# Altium schematic symbol library NXP_microcontrollers.SchLib: 1 symbol
Pins are listed as number, name and electrical type; pins without a type are passive.

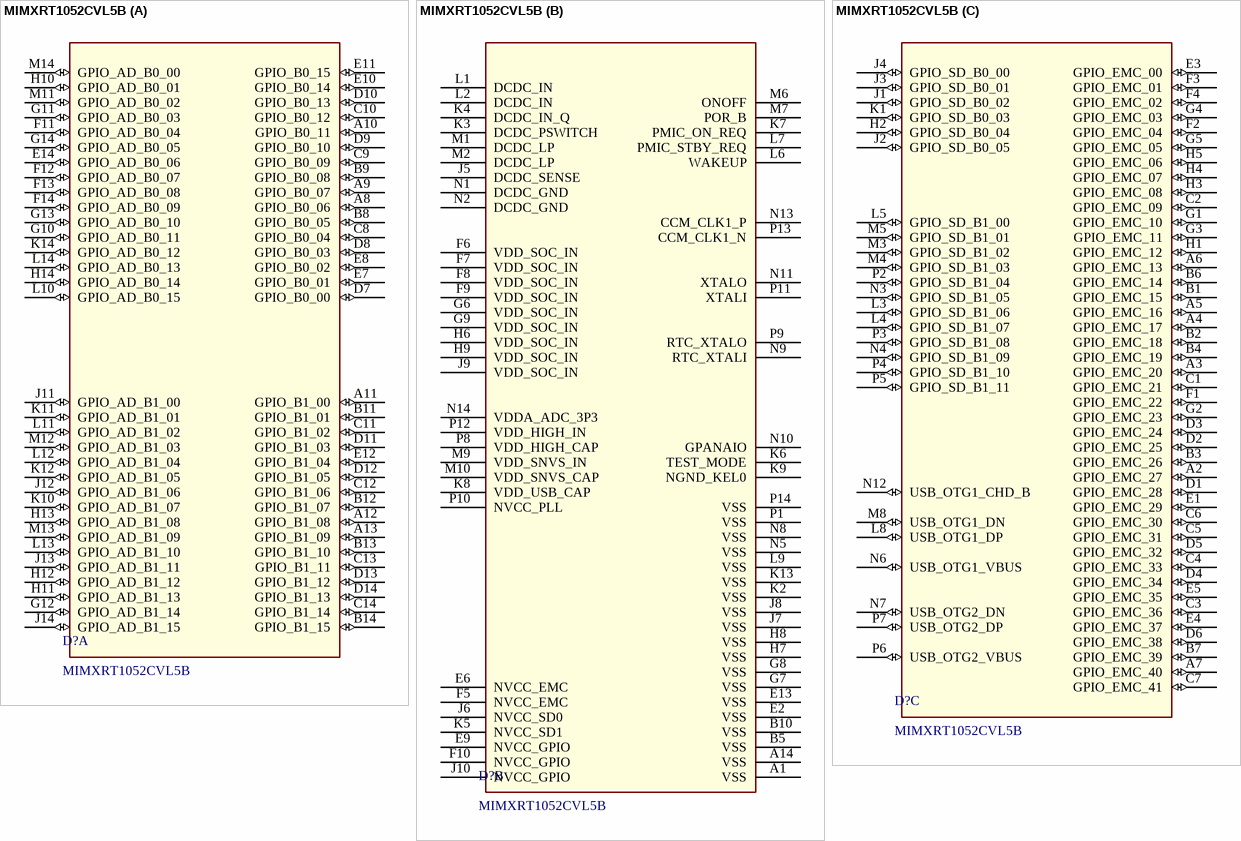
[diagram p0: symbol MIMXRT1052CVL5B]

## MIMXRT1052CVL5B
designator D?
MPU I.MX Family ARM Cortex M7 RISC 32-Bit 528MHz 196-Pin MAPBGA; Manufacturer: NXP Semiconductors; Supplier 1: Digi-Key; Manufacturer Part Number: MIMXRT1052CVL5B; Stock 1: 2673; Pricing 1: 1=13.87, 10=12.669 (USD); ComponentLink1URL: http://www.farnell.com/datasheets/2603846.pdf?src-supplier=Farnell; ComponentLink1Description: http://www.farnell.com/datasheets/2603846.pdf?src-supplier=Farnell; ComponentLink2URL: http://www.farnell.com/datasheets/2603846.pdf?src-supplier=Element14; ComponentLink2Description: http://www.farnell.com/datasheets/2603846.pdf?src-supplier=Element14; ComponentLink3URL: http://www.farnell.com/datasheets/2603846.pdf?src-supplier=Newark; ComponentLink3Description: http://www.farnell.com/datasheets/2603846.pdf?src-supplier=Newark; Supplier Part Number 1: 568-13863-ND
footprint BGA196x14_imxrt1050
part A pins: A8 GPIO_B0_06 (io), A9 GPIO_B0_07 (io), A10 GPIO_B0_11 (io), A11 GPIO_B1_00 (io), A12 GPIO_B1_08 (io), A13 GPIO_B1_09 (io), B8 GPIO_B0_05 (io), B9 GPIO_B0_08 (io), B11 GPIO_B1_01 (io), B12 GPIO_B1_07 (io), B13 GPIO_B1_10 (io), B14 GPIO_B1_15 (io), C8 GPIO_B0_04 (io), C9 GPIO_B0_09 (io), C10 GPIO_B0_12 (io), C11 GPIO_B1_02 (io), C12 GPIO_B1_06 (io), C13 GPIO_B1_11 (io), C14 GPIO_B1_14 (io), D7 GPIO_B0_00 (io), D8 GPIO_B0_03 (io), D9 GPIO_B0_10 (io), D10 GPIO_B0_13 (io), D11 GPIO_B1_03 (io), D12 GPIO_B1_05 (io), D13 GPIO_B1_12 (io), D14 GPIO_B1_13 (io), E7 GPIO_B0_01 (io), E8 GPIO_B0_02 (io), E10 GPIO_B0_14 (io), E11 GPIO_B0_15 (io), E12 GPIO_B1_04 (io), E14 GPIO_AD_B0_06 (io), F11 GPIO_AD_B0_04 (io), F12 GPIO_AD_B0_07 (io), F13 GPIO_AD_B0_08 (io), F14 GPIO_AD_B0_09 (io), G10 GPIO_AD_B0_11 (io), G11 GPIO_AD_B0_03 (io), G12 GPIO_AD_B1_14 (io), G13 GPIO_AD_B0_10 (io), G14 GPIO_AD_B0_05 (io), H10 GPIO_AD_B0_01 (io), H11 GPIO_AD_B1_13 (io), H12 GPIO_AD_B1_12 (io), H13 GPIO_AD_B1_08 (io), H14 GPIO_AD_B0_14 (io), J11 GPIO_AD_B1_00 (io), J12 GPIO_AD_B1_06 (io), J13 GPIO_AD_B1_11 (io), J14 GPIO_AD_B1_15 (io), K10 GPIO_AD_B1_07 (io), K11 GPIO_AD_B1_01 (io), K12 GPIO_AD_B1_05 (io), K14 GPIO_AD_B0_12 (io), L10 GPIO_AD_B0_15 (io), L11 GPIO_AD_B1_02 (io), L12 GPIO_AD_B1_04 (io), L13 GPIO_AD_B1_10 (io), L14 GPIO_AD_B0_13 (io), M11 GPIO_AD_B0_02 (io), M12 GPIO_AD_B1_03 (io), M13 GPIO_AD_B1_09 (io), M14 GPIO_AD_B0_00 (io)
part B pins: A1 VSS (power), A14 VSS (power), B5 VSS (power), B10 VSS (power), E2 VSS (power), E6 NVCC_EMC (power), E9 NVCC_GPIO (power), E13 VSS (power), F5 NVCC_EMC (power), F6 VDD_SOC_IN (power), F7 VDD_SOC_IN (power), F8 VDD_SOC_IN (power), F9 VDD_SOC_IN (power), F10 NVCC_GPIO (power), G6 VDD_SOC_IN (power), G7 VSS (power), G8 VSS (power), G9 VDD_SOC_IN (power), H6 VDD_SOC_IN (power), H7 VSS (power), H8 VSS (power), H9 VDD_SOC_IN (power), J5 DCDC_SENSE (power), J6 NVCC_SD0 (power), J7 VSS (power), J8 VSS (power), J9 VDD_SOC_IN (power), J10 NVCC_GPIO (power), K2 VSS (power), K3 DCDC_PSWITCH (power), K4 DCDC_IN_Q (power), K5 NVCC_SD1 (power), K6 TEST_MODE (power), K7 PMIC_ON_REQ (power), K8 VDD_USB_CAP (power), K9 NGND_KEL0 (power), K13 VSS (power), L1 DCDC_IN (power), L2 DCDC_IN (power), L6 WAKEUP (power), L7 PMIC_STBY_REQ (power), L9 VSS (power), M1 DCDC_LP (power), M2 DCDC_LP (power), M6 ONOFF (power), M7 POR_B (power), M9 VDD_SNVS_IN (power), M10 VDD_SNVS_CAP (power), N1 DCDC_GND (power), N2 DCDC_GND (power), N5 VSS (power), N8 VSS (power), N9 RTC_XTALI (power), N10 GPANAIO (power), N11 XTALO (power), N13 CCM_CLK1_P (power), N14 VDDA_ADC_3P3 (power), P1 VSS (power), P8 VDD_HIGH_CAP (power), P9 RTC_XTALO (power), P10 NVCC_PLL (power), P11 XTALI (power), P12 VDD_HIGH_IN (power), P13 CCM_CLK1_N (power), P14 VSS (power)
part C pins: A2 GPIO_EMC_27 (io), A3 GPIO_EMC_20 (io), A4 GPIO_EMC_17 (io), A5 GPIO_EMC_16 (io), A6 GPIO_EMC_13 (io), A7 GPIO_EMC_40 (io), B1 GPIO_EMC_15 (io), B2 GPIO_EMC_18 (io), B3 GPIO_EMC_26 (io), B4 GPIO_EMC_19 (io), B6 GPIO_EMC_14 (io), B7 GPIO_EMC_39 (io), C1 GPIO_EMC_21 (io), C2 GPIO_EMC_09 (io), C3 GPIO_EMC_36 (io), C4 GPIO_EMC_33 (io), C5 GPIO_EMC_31 (io), C6 GPIO_EMC_30 (io), C7 GPIO_EMC_41 (io), D1 GPIO_EMC_28 (io), D2 GPIO_EMC_25 (io), D3 GPIO_EMC_24 (io), D4 GPIO_EMC_34 (io), D5 GPIO_EMC_32 (io), D6 GPIO_EMC_38 (io), E1 GPIO_EMC_29 (io), E3 GPIO_EMC_00 (io), E4 GPIO_EMC_37 (io), E5 GPIO_EMC_35 (io), F1 GPIO_EMC_22 (io), F2 GPIO_EMC_04 (io), F3 GPIO_EMC_01 (io), F4 GPIO_EMC_02 (io), G1 GPIO_EMC_10 (io), G2 GPIO_EMC_23 (io), G3 GPIO_EMC_11 (io), G4 GPIO_EMC_03 (io), G5 GPIO_EMC_05 (io), H1 GPIO_EMC_12 (io), H2 GPIO_SD_B0_04 (io), H3 GPIO_EMC_08 (io), H4 GPIO_EMC_07 (io), H5 GPIO_EMC_06 (io), J1 GPIO_SD_B0_02 (io), J2 GPIO_SD_B0_05 (io), J3 GPIO_SD_B0_01 (io), J4 GPIO_SD_B0_00 (io), K1 GPIO_SD_B0_03 (io), L3 GPIO_SD_B1_06 (io), L4 GPIO_SD_B1_07 (io), L5 GPIO_SD_B1_00 (io), L8 USB_OTG1_DP (io), M3 GPIO_SD_B1_02 (io), M4 GPIO_SD_B1_03 (io), M5 GPIO_SD_B1_01 (io), M8 USB_OTG1_DN (io), N3 GPIO_SD_B1_05 (io), N4 GPIO_SD_B1_09 (io), N6 USB_OTG1_VBUS (io), N7 USB_OTG2_DN (io), N12 USB_OTG1_CHD_B (io), P2 GPIO_SD_B1_04 (io), P3 GPIO_SD_B1_08 (io), P4 GPIO_SD_B1_10 (io), P5 GPIO_SD_B1_11 (io), P6 USB_OTG2_VBUS (io), P7 USB_OTG2_DP (io)